# Altium schematic symbol library XT系列.SchLib: 1 symbol
Pins are listed as number, name and electrical type; pins without a type are passive.

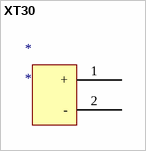
[diagram p0: symbol XT30]

## XT30
designator *
footprint XT30-M
pins: 1 +, 2 -